# Altium schematic symbol library REG104GA-5.SchLib: 1 symbol
Pins are listed as number, name and electrical type; pins without a type are passive.

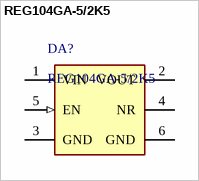
[diagram p0: symbol REG104GA-5/2K5]

## REG104GA-5/2K5
designator DA?
Single Output Fast Transient Response LDO, 1 A, Fixed 5 V Output, 2.1 to 15 V Input, 6-pin SOT-223 (DCQ), -40 to 85 degC, Green (RoHS & no Sb/Br); Manufacturer: Texas Instruments; Vin(Min)(V): 2.1; Vdo(Typ)(mV): 320; Fixed Output Options(V): 5; Accuracy(%): 2; SubFamily: Single Channel LDO; Iq(Typ)(mA): 0.6; Vin(Max)(V): 15; Iout(Max)(A): 1; ComponentLink3URL: http://www.ti.com/litv/pdf/mpds098c; ComponentLink1Description: Manufacturer URL; Vout Adj(Min)(V): 5; PackageDescription: 6-Pin Plastic Small Outline, Body 3.5 x 6.5 mm, Pitch 1.27 mm; PackageReference: DCQ0006A; Vout Adj(Max)(V): 5; ComponentLink3Description: Package Specification; ComponentLink2Description: Datasheet; ComponentLink2URL: http://www.ti.com/general/docs/lit/getliterature.tsp?genericPartNumber=REG104-5&fileType=pdf; DatasheetVersion: SBVS025G; PartNumber: REG104GA-5/2K5; ComponentLink1URL: http://www.ti.com/; Mounting Technology: Surface Mount; Eco-Plan: Green (RoHS & no Sb/Br); PackageVersion: 4202109/D
footprint DCQ0006A_L (SOT223, 6-Leads, Body 6.55x3.55mm, Pitch 1.27mm, IPC High Density)
footprint DCQ0006A_N (SOT223, 6-Leads, Body 6.55x3.55mm, Pitch 1.27mm, IPC Medium Density)
footprint DCQ0006A_M (SOT223, 6-Leads, Body 6.55x3.55mm, Pitch 1.27mm, IPC Low Density)
pins: 1 VIN (power), 2 VOUT (power), 3 GND (power), 4 NR, 5 EN (in), 6 GND (power)